# Altium footprint library 6-Pcblib_BjtMos.PcbLib: 31 footprints (part 2 of 2)
Each footprint in its own frame and in the unit in brackets; x right, y up, seen from the top. Pads: shape width x height; smd on the part's side, far side on the other; paste and mask are expansions set on the pad; w line width, h text height; cw(c..) or ccw(c..) is an arc to the next point about the centre after c.
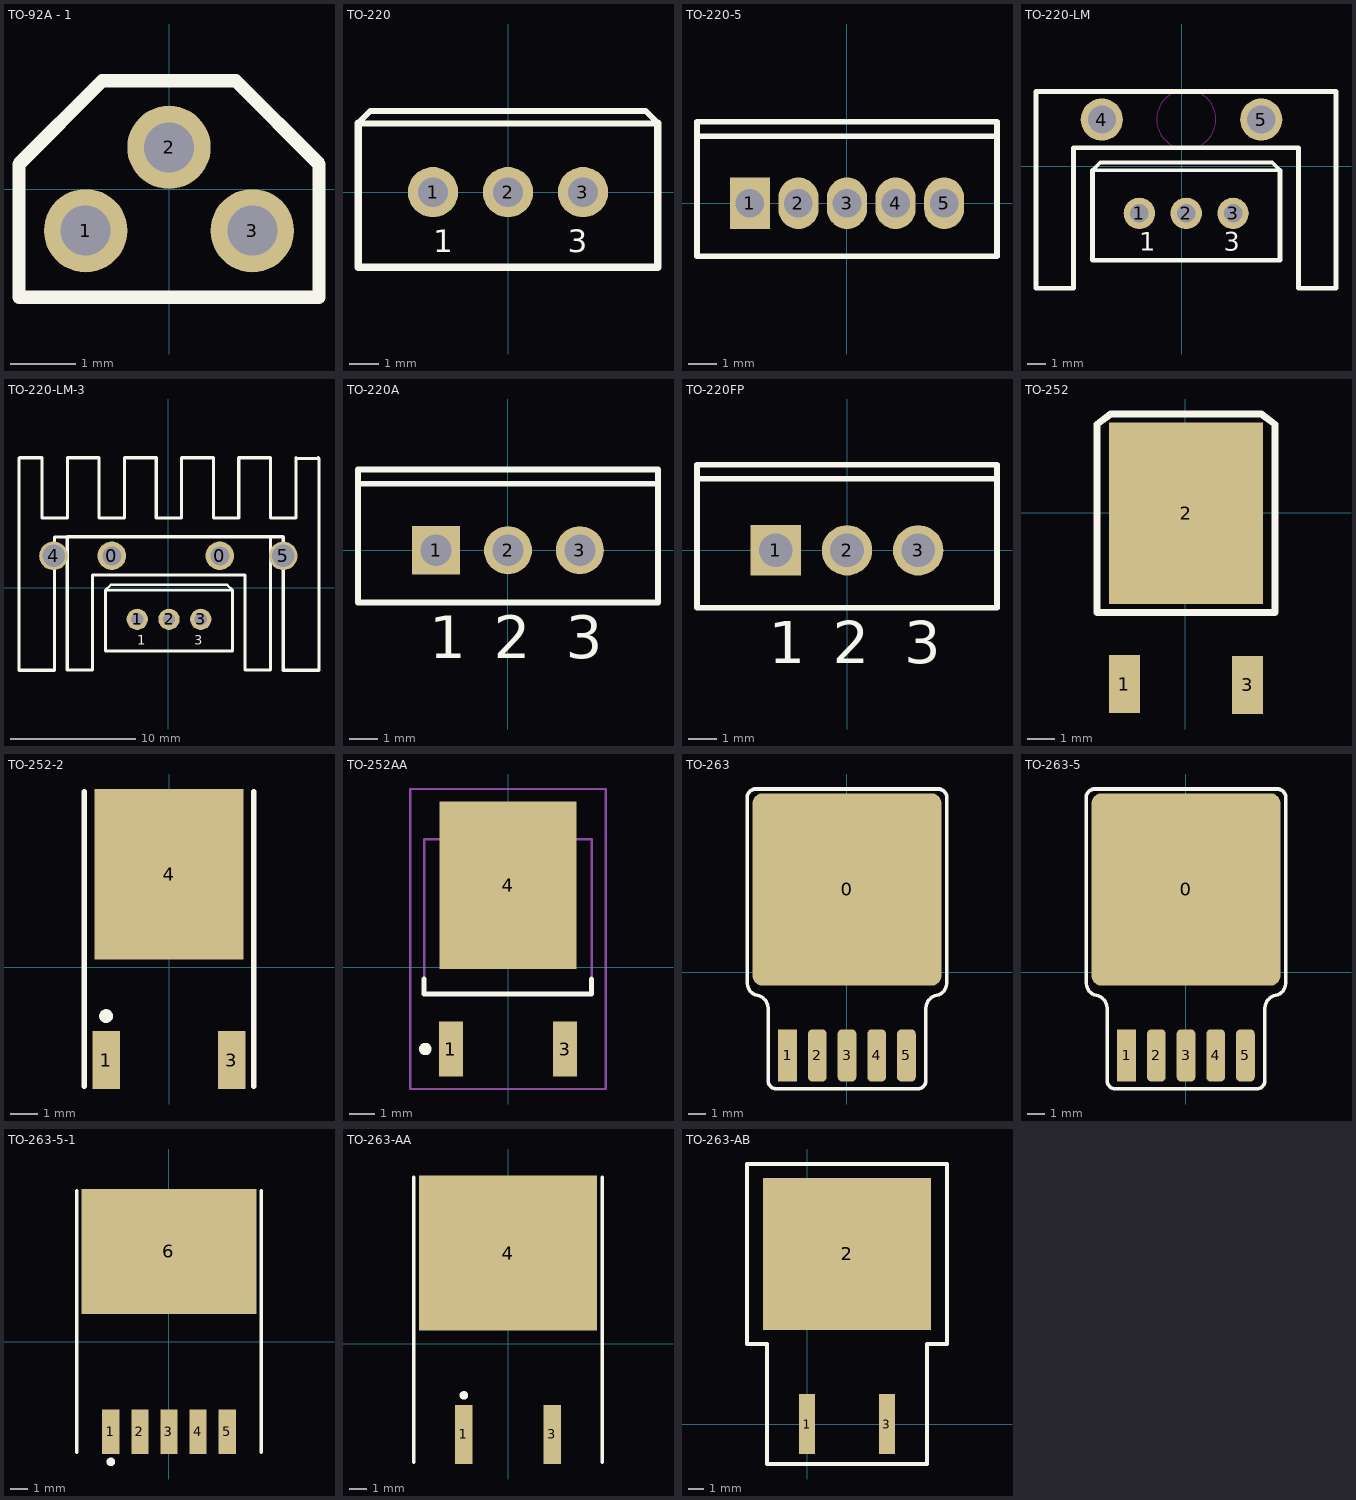
[diagram p1: the footprints below, top view; thin cyan lines are the x and y axes]

## TO-92A - 1 [mil] "7805/7809/LP2950电源芯片（已加焊）"
pads (3):
  round 50 hole 30: 1(-50,-25) 2(0,25) 3(50,-25)
Top Overlay:
  lines w8: -90,-65 -90,15 -40,65 40,65 90,15 90,-65 -90,-65
3D body: height 298, standoff -89.4, extent -88.78,-62.8 89.17,71.06

## TO-220 [mm]
pads (3):
  round 1.7 hole 1: 1(-2.54,0) 2(0,0) 3(2.54,0)
Top Overlay:
  lines w0.2: -5.08,2.328 5.08,2.328 4.657,2.752 -4.657,2.752 -5.08,2.328
  lines w0.254: -5.08,2.328 -5.08,-2.529 -5.069,-2.54 5.069,-2.54 5.08,-2.529 5.08,2.328
  text "3" at 2.032,-2.032 h0.76
  text "1" at -2.54,-2.032 h0.76
3D body: height 18.8, standoff -9.98, extent -4.925,-2.108 4.975,2.392

## TO-220-5 [mm] "TO, Thru-Hole, Vertical, Heatsink Mounted; 5 In-Line Leads; Pitch 1.70 mm"
height 15.1
pads (5):
  rect 1.4x1.8 hole 1: 1(-3.4,0)
  oval 1.4x1.8 hole 1: 2(-1.7,0) 3(0,0) 4(1.7,0) 5(3.4,0)
Top Overlay:
  lines w0.2: -5.25,2.35 5.25,2.35 ; -5.25,-1.85 -5.25,2.85 5.25,2.85 5.25,-1.85 -5.25,-1.85

## TO-220-LM [mil]
height 200
pads (5):
  round 66.93 hole 39.37: 1(-90,-100) 2(10,-100) 3(110,-100)
  round 90 hole 60: 4(-170,100) 5(170,100)
Top Overlay:
  lines w7.87: -190,-8.33 210,-8.33 193.33,8.33 -173.33,8.33 -190,-8.33
  lines w10: -190,-8.33 -190,-199.56 -189.56,-200 209.56,-200 210,-199.56 210,-8.33 ; 329.56,40 329.56,160 ; 329.56,160 329.56,-260 249.56,-260 249.56,40 -230.44,40 -230.44,-260 -310.44,-260 -310.44,-60 -310.44,40 -310.44,160 329.56,160
  text "3" at 90,-180 h39.37
  text "1" at -90,-180 h39.37
Keep-Out Layer:
  circle w1: c10.18,100.54 r63.25
3D body: height 829.41, standoff -191.53, extent -324.65,-327.36 344.65,75

## TO-220-LM-3 [mm]
height 30
pads (7):
  round 2.286 hole 1.524: 0(-4.522,2.54) 0(4.114,2.54)
  round 1.7 hole 1: 1(-2.49,-2.54) 2(0.05,-2.54) 3(2.59,-2.54)
  round 2.286 hole 1.8: 4(-9.189,2.531) 5(9.189,2.531)
Top Overlay:
  lines w0.2: -5.03,-0.212 5.13,-0.212 4.706,0.212 -4.607,0.212 -5.03,-0.212
  lines w0.254: -11.95,7.097 -11.95,10.341 ; -11.95,7.415 -11.95,10.341 ; -5.03,-0.212 -5.03,-5.069 -5.019,-5.08 5.119,-5.08 5.13,-5.069 5.13,-0.212 ; 8.167,1.016 8.167,4.064 ; 9.189,0.499 9.189,2.531 ; 11.995,10.387 12.05,10.332 ; 12.05,7.309 12.05,10.332 ; -11.95,10.341 -11.905,10.387 -10.115,10.387 -10.115,5.573 -8.083,5.573 -8.083,10.387 -5.543,10.387 -5.543,5.573 -3.511,5.573 -3.511,10.387 -0.971,10.387 -0.971,5.573 1.061,5.573 1.061,10.387 3.601,10.387 3.601,5.573 5.633,5.573 5.633,10.387 7.665,10.387 8.173,10.387 8.173,5.573 10.205,5.573 10.205,10.387 10.26,10.332 12.05,10.332 ; -11.95,10.341 -11.95,-6.619 -9.099,-6.619 -9.099,4.055 -8.098,4.055 -8.089,4.064 ; -8.089,4.064 -8.089,1.016 -8.089,-1.524 -8.089,-6.604 -6.057,-6.604 -6.057,1.016 6.135,1.016 6.135,-6.604 8.167,-6.604 8.167,4.064 ; -8.089,4.064 8.167,4.064 ; 8.167,4.064 9.18,4.064 9.189,4.055 9.189,-6.619 12.05,-6.619 12.05,10.332
  text "3" at 2.082,-4.572 h0.76
  text "1" at -2.49,-4.572 h0.76

## TO-220A [mm] "TO, Thru-Hole, Vertical, Heatsink Mounted; 3 In-Line Leads; Pitch 2.54 mm"
height 19.7
pads (3):
  rect 1.7x1.7 hole 1.1: 1(-2.54,0)
  round 1.7 hole 1.1: 2(0,0) 3(2.54,0)
Top Overlay:
  lines w0.2: -5.3,2.35 5.3,2.35 ; -5.3,-1.85 5.3,-1.85 5.3,2.85 -5.3,2.85 -5.3,-1.85
  text "1" at -2.79,-3.825 h1.5
  text "2" at -0.5,-3.825 h1.5
  text "3" at 2.04,-3.825 h1.5

## TO-220FP [mm] "TO, Thru-Hole, Vertical, Heatsink Mounted; 3 In-Line Leads; Pitch 2.54 mm"
height 16.4
pads (3):
  rect 1.8x1.8 hole 1.2: 1(-2.54,0)
  round 1.8 hole 1.2: 2(0,0) 3(2.54,0)
Top Overlay:
  lines w0.2: -5.35,2.55 5.35,2.55 ; -5.35,-2.05 5.35,-2.05 5.35,3.05 -5.35,3.05 -5.35,-2.05
  text "3" at 2.04,-4.025 h1.5
  text "2" at -0.5,-4.025 h1.5
  text "1" at -2.79,-4.025 h1.5

## TO-252 [mil]
height 25.59
pads (3):
  rect 45x85 smd: 1(-89,-250) 3(91,-251.35)
  rect 225x265 smd: 2(1,-0.35)
Top Overlay:
  lines w10: -129,-145.35 131,-145.35 131,129.65 111,144.65 1,144.65 -109,144.65 -129,129.65 -129,-145.35

## TO-252-2 [mm] "D-PAK/TO-252-AA; 3 Leads (1 Cropped); Body 10.1 (inc. leads) x 6.6 mm (LxW max)"
height 2.4
pads (3):
  rect 1x2.1 smd: 1(-2.285,-3.375) 3(2.285,-3.375)
  rect 5.4x6.2 smd: 4(0,3.375)
Top Overlay:
  circle w0.25: c-2.285,-1.775 r0.125
  lines w0.2: -3.085,-4.325 -3.085,6.375 ; 3.085,-4.325 3.085,6.375

## TO-252AA [mm] "D-PAK, 4-Leads, Body 6.1x6.5mm, Pitch 2.28mm, Lead Span 9.8mm, IPC Low Density"
height 2.38
pads (3):
  rect 0.95x2.2 smd: 1(-2.28,-3.275) 3(2.28,-3.275)
  rect 5.5x6.7 smd: 4(0,3.275)
Top Overlay:
  circle w0.25: c-3.305,-3.275 r0.125
  lines w0.2: -3.35,-0.475 -3.35,-1.075 3.35,-1.075 3.35,-0.475
Mechanical 13:
  lines w0.1: -3.35,-1.075 -3.35,5.125 3.35,5.125 3.35,-1.075 -3.35,-1.075
Mechanical 15:
  lines w0.1: -0.5,1.125 0.5,1.125 ; 0,0.625 0,1.625 ; -3.9,-4.875 -3.9,7.125 3.9,7.125 3.9,-4.875 -3.9,-4.875
3D body: height 2.39, standoff -0.02, extent -3.27,-3.775 3.27,6.163

## TO-263 [mm]
pads (6):
  rrect10% 10.8x11 smd: 0(0,4.75)
  rect 1.07x3 smd: 1(-3.4,-4.75)
  rrect50% 1.07x3 smd: 2(-1.7,-4.75) 3(0,-4.75) 4(1.7,-4.75) 5(3.4,-4.75)
Top Overlay:
  lines w0.2: -4.512,-6.122 ccw(c-4.028,-6.181) -4.125,-6.659 ; 4.125,-6.659 ccw(c4.028,-6.181) 4.512,-6.122
  lines w0.203: -5.7,10.05 -5.7,-0.53 ccw(c-5.005,-0.615) -5.145,-1.301 cw(c-5.306,-2.084) -4.512,-2.181 -4.512,-6.122 ; -5.7,10.109 cw(c-5.222,10.011) -5.299,10.493 ; -5.3,10.5 5.3,10.5 ; -4.125,-6.659 4.125,-6.659 ; 4.512,-6.122 4.512,-2.181 cw(c5.306,-2.084) 5.145,-1.301 ccw(c5.005,-0.615) 5.7,-0.53 5.7,10.05 ; 5.299,10.493 cw(c5.222,10.011) 5.7,10.109
3D body: height 4.48, standoff 0, extent -5.137,-4.801 5.086,9.55

## TO-263-5 [mm]
pads (6):
  rrect10% 10.8x11 smd: 0(0,4.75)
  rect 1.07x3 smd: 1(-3.4,-4.75)
  rrect50% 1.07x3 smd: 2(-1.7,-4.75) 3(0,-4.75) 4(1.7,-4.75) 5(3.4,-4.75)
Top Overlay:
  lines w0.2: -4.512,-6.122 ccw(c-4.028,-6.181) -4.125,-6.659 ; 4.125,-6.659 ccw(c4.028,-6.181) 4.512,-6.122
  lines w0.203: -5.7,10.05 -5.7,-0.53 ccw(c-5.005,-0.615) -5.145,-1.301 cw(c-5.306,-2.084) -4.512,-2.181 -4.512,-6.122 ; -5.7,10.109 cw(c-5.222,10.011) -5.299,10.493 ; -5.3,10.5 5.3,10.5 ; -4.125,-6.659 4.125,-6.659 ; 4.512,-6.122 4.512,-2.181 cw(c5.306,-2.084) 5.145,-1.301 ccw(c5.005,-0.615) 5.7,-0.53 5.7,10.05 ; 5.299,10.493 cw(c5.222,10.011) 5.7,10.109
3D body: height 4.48, standoff 0, extent -5.137,-4.801 5.086,9.55

## TO-263-5-1 [mm]
pads (6):
  rect 1x2.6 smd: 1(-3.398,-5.273) 2(-1.698,-5.273) 3(0.002,-5.273) 4(1.702,-5.273) 5(3.402,-5.273)
  rect 10.2x7.3 smd: 6(0.002,5.277)
Top Overlay:
  circle w0.25: c-3.398,-7.023 r0.125
  lines w0.2: -5.398,-6.473 -5.398,8.827 ; 5.402,-6.473 5.402,8.827

## TO-263-AA [mm] "D2-PAK/TO-263-AB; 3 Leads (1 Cropped); Body 15.9 (inc. leads) x 10.4 mm (LxW max)"
height 4.6
pads (3):
  rect 1x3.4 smd: 1(-2.54,-5.225) 3(2.54,-5.225)
  rect 10.25x8.9 smd: 4(0,5.225)
Top Overlay:
  circle w0.25: c-2.54,-2.975 r0.125
  lines w0.2: -5.425,-6.825 -5.425,9.575 ; 5.425,-6.825 5.425,9.575

## TO-263-AB [mil]
height 23.62
pads (3):
  rect 40x150 smd: 1(0,0) 3(200,0)
  rect 420x380 smd: 2(100,425)
Top Overlay:
  lines w10: -150,200 -100,200 -100,-100 300,-100 300,200 350,200 350,650 -150,650 -150,200
3D body: height 236.22, standoff 0, extent -96,-60.64 297.7,608.64